# Altium integrated library HDMIESD.IntLib: 1 symbol
Pins are listed as number, name and electrical type; pins without a type are passive.

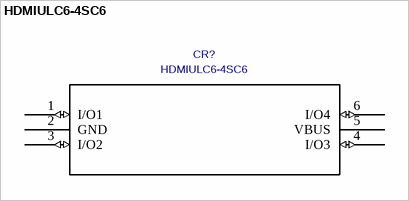
[diagram p0: symbol HDMIULC6-4SC6]

## HDMIULC6-4SC6
designator CR?
C: Copyright (C) 2015 Accelerated Designs. All rights reserved; Vendor: STMicroelectronics; Built_By: EMA_UL_Team; Value: HDMIULC6-4SC6; Manufacturer_Part_Number: HDMIULC6-4SC6
footprint SOT23-6L
pins: 1 I/O1 (io), 2 GND (power), 3 I/O2 (io), 4 I/O3 (io), 5 VBUS (power), 6 I/O4 (io)